# EAGLE library part PICOBLADE7 (library ZMPLC)
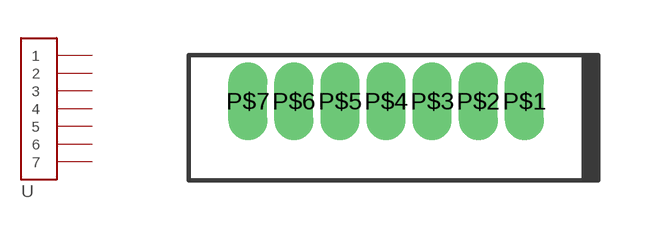
[diagram p13: symbol with the pads of PICOBLADE7; footprint PICOBLADE7]

Designator prefix -

## PICOBLADE7  [PICOBLADE7]
P$1  1
P$2  2
P$3  3
P$4  4
P$5  5
P$6  6
P$7  7

## Footprint PICOBLADE7 (pad centres in mm)
drill 0.55 long: P$1 0,0; P$2 -1.25,0; P$3 -2.5,0; P$4 -3.75,0; P$5 -5,0; P$6 -6.25,0; P$7 -7.5,0